# Altium footprint library SOP254P675X220-4N.PcbLib: 1 footprints
Each footprint in its own frame and in the unit in brackets; x right, y up, seen from the top. Pads: shape width x height; smd on the part's side, far side on the other; paste and mask are expansions set on the pad; w line width, h text height; cw(c..) or ccw(c..) is an arc to the next point about the centre after c.
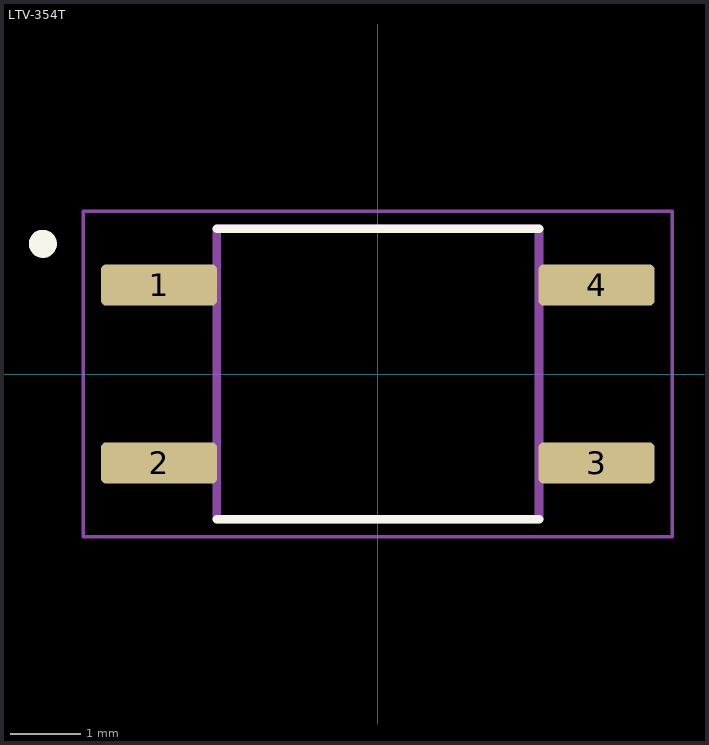
[diagram p0: the footprint, top view; thin cyan lines are the x and y axes]

## LTV-354T [mm]
pads (4):
  rrect25% 1.66x0.59 smd: 1(-3.125,1.27) 2(-3.125,-1.27) 3(3.125,-1.27) 4(3.125,1.27)
Top Overlay:
  circle w0.2: c-4.785,1.86 r0.1
  lines w0.127: -2.3,-2.075 2.3,-2.075 ; -2.3,2.075 2.3,2.075
Mechanical 13:
  circle w0.2: c-4.785,1.86 r0.1
  lines w0.127: -2.3,-2.075 2.3,-2.075 2.3,2.075 -2.3,2.075 -2.3,-2.075
Mechanical 15:
  lines w0.05: -4.205,-2.325 4.205,-2.325 4.205,2.325 -4.205,2.325 -4.205,-2.325